# Altium footprint library M74RAPWR1.PcbLib: 1 footprints
Each footprint in its own frame and in the unit in brackets; x right, y up, seen from the top. Pads: shape width x height; smd on the part's side, far side on the other; paste and mask are expansions set on the pad; w line width, h text height; cw(c..) or ccw(c..) is an arc to the next point about the centre after c.
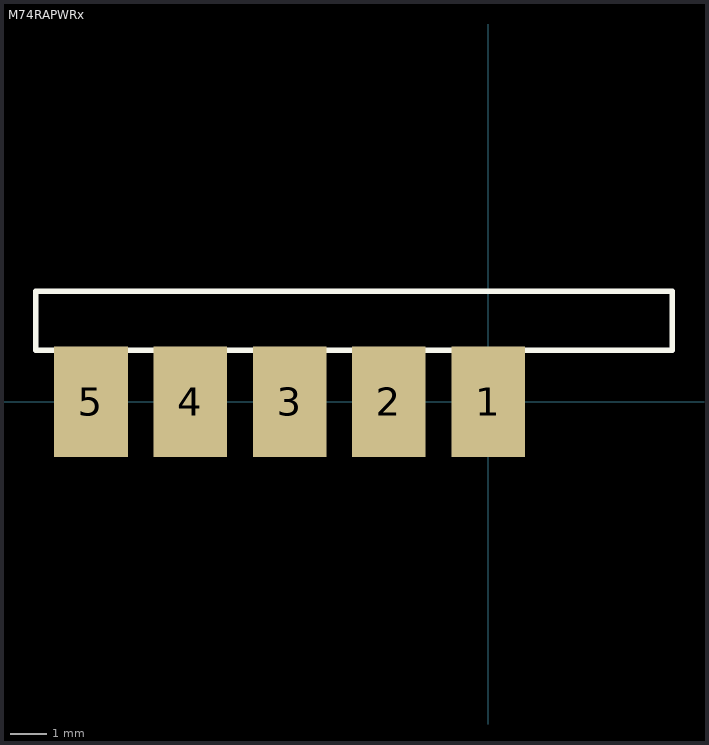
[diagram p0: the footprint, top view; thin cyan lines are the x and y axes]

## M74RAPWRx [mm]
height 14
pads (5):
  rect 2x3 smd: 1(0,0) 2(-2.7,0) 3(-5.4,0) 4(-8.1,0) 5(-10.8,0)
Top Overlay:
  lines w0.15: -12.3,1.4 5,1.4 5,3 -12.3,3 -12.3,1.4
3D body "M74RAPWR1.step": height 14, standoff 0, extent -25,-0.984 5,3.016